# Altium footprint library infineon-package.PcbLib: 6 footprints
Each footprint in its own frame and in the unit in brackets; x right, y up, seen from the top. Pads: shape width x height; smd on the part's side, far side on the other; paste and mask are expansions set on the pad; w line width, h text height; cw(c..) or ccw(c..) is an arc to the next point about the centre after c.
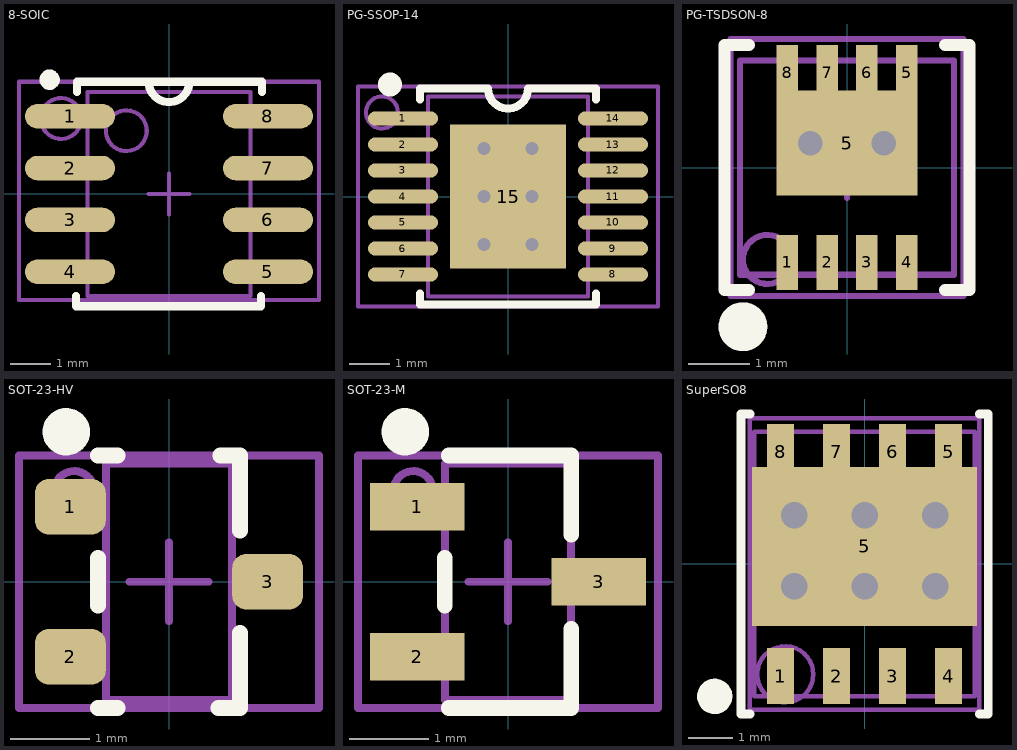
[diagram p0: the footprints below, top view; thin cyan lines are the x and y axes]

## 8-SOIC [mm] "Plastic Small Outline 8"
height 1.7
pads (8):
  oval 2.2x0.6 smd: 1(-2.425,1.905) 2(-2.425,0.635) 3(-2.425,-0.635) 4(-2.425,-1.905) 5(2.425,-1.905) 6(2.425,-0.635) 7(2.425,0.635) 8(2.425,1.905)
Top Overlay:
  circle w0.25: c-2.925,2.8 r0.125
  lines w0.2: -2.275,-2.5 -2.275,-2.75 2.25,-2.75 2.25,-2.5 ; -2.25,2.5 -2.25,2.75 2.275,2.75 2.275,2.5 ; -0.5,2.75 ccw(c0,2.75) 0.5,2.75
Mechanical 13:
  circle w0.1: c-1.045,1.55 r0.5
  lines w0.1: -0.5,0 0.5,0 ; 0,-0.5 0,0.5 ; -2,-2.5 2,-2.5 2,2.5 -2,2.5 -2,-2.5
Mechanical 15:
  circle w0.1: c-2.645,1.85 r0.5
  lines w0.1: -3.675,-2.6 3.675,-2.6 3.675,2.75 -3.675,2.75 -3.675,-2.6
  text ".Designator" at -0.1,2.375 h0.5
3D body: height 1.75, standoff 0, extent -2.9,-2.4 2.9,2.4

## PG-SSOP-14 [mm] "SOP, 14-Leads, Body 5.0x4.0mm (max), Pitch 0.65mm, IPC Medium Density"
height 1.7
pads (15):
  oval 1.75x0.35 smd: 1(-2.625,1.95) 2(-2.625,1.3) 3(-2.625,0.65) 4(-2.625,0) 5(-2.625,-0.65) 6(-2.625,-1.3) 7(-2.625,-1.95) 8(2.625,-1.95) 9(2.625,-1.3) 10(2.625,-0.65) 11(2.625,0) 12(2.625,0.65) 13(2.625,1.3) 14(2.625,1.95)
  rect 2.9x3.6 smd: 15(0,0)
via 0.6,-1.2 diameter 0.66 hole 0.33
via -0.6,-1.2 diameter 0.66 hole 0.33
via 0.6,0 diameter 0.66 hole 0.33
via -0.6,0 diameter 0.66 hole 0.33
via 0.6,1.2 diameter 0.66 hole 0.33
via -0.6,1.2 diameter 0.66 hole 0.33
Top Overlay:
  circle w0.3: c-2.95,2.8 r0.15
  lines w0.2: -2.2,-2.425 -2.2,-2.7 2.2,-2.7 2.2,-2.425 ; -2.2,2.425 -2.2,2.7 -0.5,2.7 ccw(c0,2.7) 0.5,2.7 2.2,2.7 2.2,2.425
Mechanical 13:
  lines w0.1: -0.5,0 0.5,0 ; 0,-0.5 0,0.5 ; -2,-2.5 2,-2.5 2,2.5 -2,2.5 -2,-2.5
Mechanical 15:
  circle w0.1: c-3.151,2.1 r0.4
  lines w0.1: -3.75,-2.75 3.75,-2.75 3.75,2.75 -3.75,2.75 -3.75,-2.75
  text ".Designator" at -0.6,2.3 h1.2
3D body: height 1.2, standoff 0, extent -3.2,-2.55 3.2,2.55

## PG-TSDSON-8 [mm] "8-Leads, Body 3.3x3.3mm (max), Pitch 0.65mm, IPC Medium Density"
height 0.95
pads (9):
  rect 0.35x0.9 smd: 1(-0.975,-1.55) 2(-0.325,-1.55) 3(0.325,-1.55) 4(0.975,-1.55) 5(0.975,1.55) 6(0.325,1.55) 7(-0.325,1.55) 8(-0.975,1.55)
  rect 2.3x1.72 smd: 5(0,0.4)
via -0.6,0.4 diameter 0.7 hole 0.4
via 0.6,0.4 diameter 0.7 hole 0.4
Top Overlay:
  circle w0.4: c-1.7,-2.6 r0.2
  lines w0.2: -1.6,-2 -2,-2 -2,2 -1.6,2 ; 1.6,-2 2,-2 2,2 1.6,2
Mechanical 13:
  lines w0.1: -0.5,0 0.5,0 ; 0,-0.5 0,0.5 ; -1.75,-1.75 -1.75,1.75 1.75,1.75 1.75,-1.75 -1.75,-1.75
Mechanical 15:
  circle w0.1: c-1.3,-1.5 r0.4
  lines w0.1: -1.9,-2.1 -1.9,2.1 1.9,2.1 1.9,-2.1 -1.9,-2.1
  text ".Designator" at -2.54,0 h0.5
3D body: height 1.11, standoff 0, extent -1.7,-1.7 1.7,1.7

## SOT-23-HV [mm] "SOT23, 3-Leads, Body 3.0x2.8mm (max), Pitch 0.95mm, IPC High Density"
height 1.4
pads (3):
  rrect50% 0.9x0.7 smd: 1(-1.25,0.95) 2(-1.25,-0.95) 3(1.25,0)
Top Overlay:
  circle w0.3: c-1.3,1.9 r0.15
  lines w0.2: -0.9,-1.6 -0.65,-1.6 ; -0.9,-0.3 -0.9,0.3 ; -0.9,1.6 -0.65,1.6 ; 0.625,-1.6 0.9,-1.6 0.9,-0.65 ; 0.65,1.6 0.9,1.6 0.9,0.65
Mechanical 13:
  lines w0.1: -0.5,0 0.5,0 ; 0,-0.5 0,0.5 ; -0.8,-1.5 -0.8,1.5 0.8,1.5 0.8,-1.5 -0.8,-1.5
Mechanical 15:
  circle w0.1: c-1.201,1.15 r0.251
  lines w0.1: -1.9,-1.6 -1.9,1.6 1.9,1.6 1.9,-1.6 -1.9,-1.6
  text ".Designator" at -0.2,1.325 h0.8
3D body: height 1.02, standoff 0.02, extent -1.17,-1.46 1.17,1.46

## SOT-23-M [mm] "SOT23, 3-Leads, Body 3.0x2.8mm (max), Pitch 0.95mm, Medium Density"
height 1.4
pads (3):
  rect 1.2x0.6 smd: 1(-1.15,0.95) 2(-1.15,-0.95) 3(1.15,0)
Top Overlay:
  circle w0.3: c-1.3,1.9 r0.15
  lines w0.2: -0.8,-0.3 -0.8,0.3 ; -0.75,-1.6 0.8,-1.6 0.8,-0.6 ; -0.75,1.6 0.8,1.6 0.8,0.6
Mechanical 13:
  lines w0.1: -0.5,0 0.5,0 ; 0,-0.5 0,0.5 ; -0.8,-1.5 -0.8,1.5 0.8,1.5 0.8,-1.5 -0.8,-1.5
Mechanical 15:
  circle w0.1: c-1.201,1.15 r0.251
  lines w0.1: -1.9,-1.6 -1.9,1.6 1.9,1.6 1.9,-1.6 -1.9,-1.6
  text ".Designator" at -0.2,1.325 h1.2
3D body: height 1.02, standoff 0.02, extent -1.17,-1.46 1.17,1.46

## SuperSO8 [mm] "8-Leads, Body 5.0x6.0mm (max), Pitch 1.27mm, IPC Medium Density"
height 0.95
pads (9):
  rect 0.61x1.27 smd: 1(-1.905,-2.54) 2(-0.635,-2.54) 3(0.635,-2.54) 4(1.905,-2.54) 5(1.905,2.54) 6(0.635,2.54) 7(-0.635,2.54) 8(-1.905,2.54)
  rect 5.1x3.6 smd: 5(0,0.4)
via -1.6,1.1 diameter 1 hole 0.6
via -1.6,-0.5 diameter 1 hole 0.6
via 0,-0.5 diameter 1 hole 0.6
via 0,1.1 diameter 1 hole 0.6
via 1.6,1.1 diameter 1 hole 0.6
via 1.6,-0.5 diameter 1 hole 0.6
Top Overlay:
  circle w0.4: c-3.4,-3 r0.2
  lines w0.2: -2.6,-3.4 -2.8,-3.4 -2.8,3.4 -2.6,3.4 ; 2.6,-3.4 2.8,-3.4 2.8,3.4 2.6,3.4
Mechanical 13:
  lines w0.1: -0.5,0 0.5,0 ; 0,-0.5 0,0.5 ; -2.5,-3 -2.5,3 2.5,3 2.5,-3 -2.5,-3
Mechanical 15:
  circle w0.1: c-1.8,-2.5 r0.636
  lines w0.1: -2.6,-3.3 -2.6,3.3 2.6,3.3 2.6,-3.3 -2.6,-3.3
  text ".Designator" at -2.54,0 h0.5
3D body: height 1, standoff 0, extent -2.5,-3.001 2.5,3.001